# Altium integrated library IRF7832PbF.IntLib: 1 symbol
Pins are listed as number, name and electrical type; pins without a type are passive.

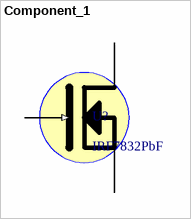
[diagram p0: symbol Component_1]

## Component_1
designator U?, comment IRF7832PbF
IRF7832TRPBF -  MOSFET Transistor, N Channel, 20 A, 30 V, 0.0031 ohm, 10 V, 2.32 V. Used with TPS51116.; Manufacturer: INFINEON; Designer: Faheem; Company: PhasePhotonics; Data Sheet URL: http://www.farnell.com/datasheets/107881.pdf?_ga=2.7827060.752270131.1548443175-886242363.1545409715&_gac=1.221262314.1547824021.Cj0KCQiAj4biBRC-ARIsAA4WaFgEVxY1DDQMjPmwclte-08yP6TbUPRUf-iJ2mTW08_wstvQJToLRRUaArGKEALw_wcB; Buyer URL: https://uk.farnell.com/infineon/irf7832trpbf/mosfet-n-ch-30v-20a-soic-8/dp/2468025?st=IRF7832; Manufacturer Part No: IRF7832TRPBF
footprint SOIC127P600X172-8N
pins: 1,2,3 S, 4 G (in), 8,7,6,5 D